# Altium schematic symbol library 驱动电路1-0.SchLib: 2 symbols
Pins are listed as number, name and electrical type; pins without a type are passive.

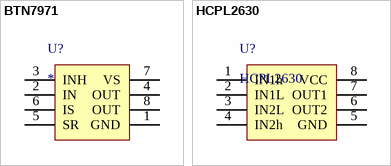
[diagram p0: symbols BTN7971 to HCPL2630]

## BTN7971
designator U?
footprint DPAK127P1615X127-8N (TO, 8-Pads, Body 7.23x8.36mm (max), IPC Medium Density)
pins: 1 GND, 2 IN, 3 INH, 4 OUT, 5 SR, 6 IS, 7 VS, 8 OUT

## HCPL2630
designator U?
footprint SOP8 (（蒜米工坊）)
pins: 1 IN1h, 2 IN1L, 3 IN2L, 4 IN2h, 5 GND, 6 OUT2, 7 OUT1, 8 VCC